# Altium integrated library Maxim Sensors.IntLib: 1171 symbols (part 6 of 61)
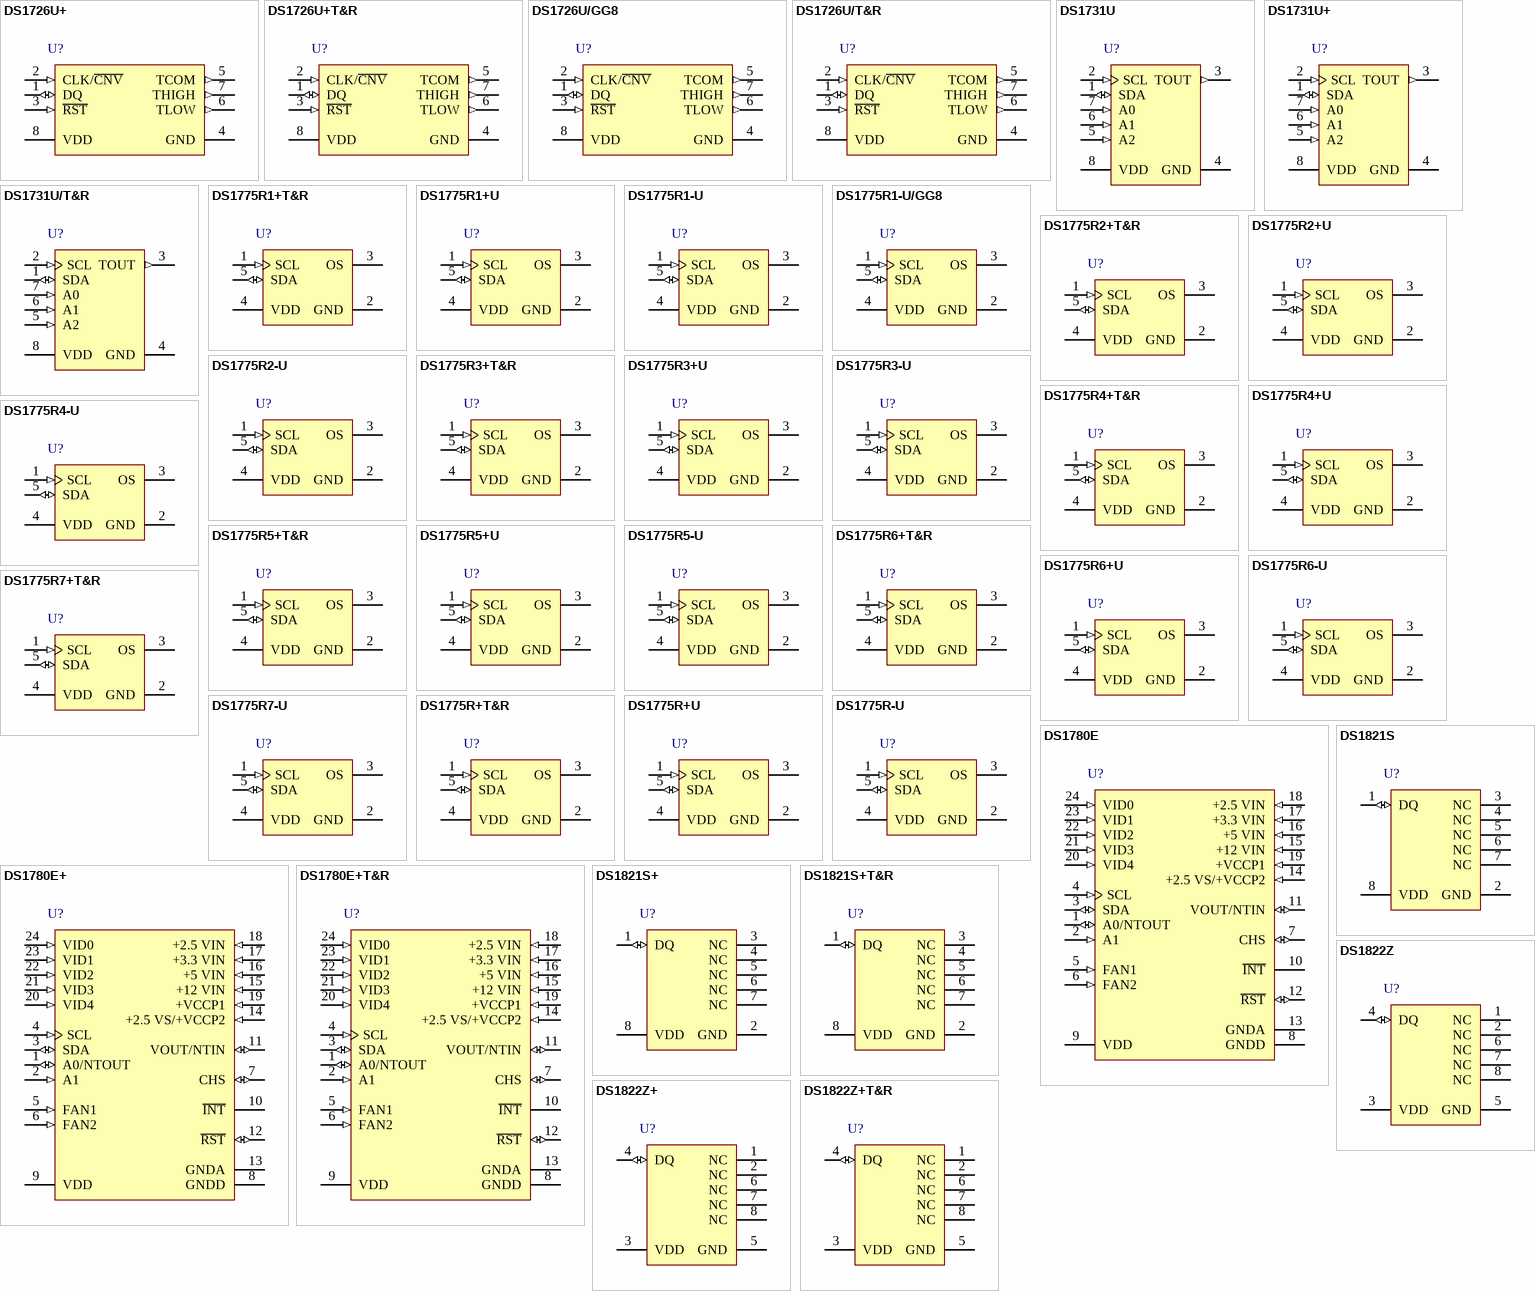
[diagram p38: symbols DS1726U+ to DS1822Z+T&R]

## DS1775R3-U
designator U?
Tiny Digital Thermometer and Thermostat, 9 to 12 Bits Temperature Resolution, -55 to 125 degC, 5-Pin SOT23 (U5-1); Generic Part Number: DS1775; PartNumber: DS1775R3-U; Interface: 2-Wire/I2C/SMBus; Multi Droppable: Yes; Parasite Pwr.: No; DatasheetVersion: Rev. 1; PackageVersion: Rev. G, 04/2011; PackageReference: U5-1; PackageDescription: 5-Pin Small-Outline Transistor Package (U5-1), Body 2.9 x 1.625 mm, Pitch 0.95 mm; Supplier 1: Mouser; Supplier Part Number 1: N/A; Mounting Technology: Surface Mount; Code_JEDEC: MO178; ComponentLink1Description: Manufacturer URL; ComponentLink1URL: http://www.maximintegrated.com/; ComponentLink2Description: Datasheet; ComponentLink2URL: http://datasheets.maximintegrated.com/en/ds/DS1775-DS1775R.pdf; ComponentLink3Description: Package Specification; ComponentLink3URL: http://pdfserv.maximintegrated.com/package_dwgs/21-0057.PDF
footprint MAXM-U5-1_N (SOT23, 5-Leads, Body 2.9x1.625mm, Pitch 0.95mm, IPC Medium Density)
footprint MAXM-U5-1_L (SOT23, 5-Leads, Body 2.9x1.625mm, Pitch 0.95mm, IPC High Density)
footprint MAXM-U5-1_M (SOT23, 5-Leads, Body 2.9x1.625mm, Pitch 0.95mm, IPC Low Density)
pins: 1 SCL (in) "Clock input/output pin for 2-wire serial communication port. This input should be tied to GND for standalone thermostat operation.", 2 GND (power) "Ground pin.", 3 OS (oc) "Thermostat output Open-drain output becomes active when temperature exceeds TOS. Device configuration defines means to clear over-temperature state.", 4 VDD (power) "Supply Voltage 2.7V - 5.5V input power pin.", 5 SDA (io) "Data input/output pin for 2-wire serial communication port. In the standalone thermostat mode, this input selects hysteresis."

## DS1775R4+T&R
designator U?
Tiny Digital Thermometer and Thermostat, 9 to 12 Bits Temperature Resolution, -55 to 125 degC, 5-Pin SOT23 (U5+1), Pb-Free, Tape and Reel; Generic Part Number: DS1775; PartNumber: DS1775R4+T&R; Interface: 2-Wire/I2C/SMBus; Multi Droppable: Yes; Parasite Pwr.: No; DatasheetVersion: Rev. 1; PackageVersion: Rev. G, 04/2011; PackageReference: U5+1; PackageDescription: 5-Pin Small-Outline Transistor Package (U5+1), Body 2.90 x 1.625 mm, Pitch 0.95 mm; Supplier 1: Digi-Key; Supplier Part Number 1: DS1775R4+T&R-ND; Supplier 2: Mouser; Supplier Part Number 2: 700-DS1775R4T&R; Packing: Tape and Reel; Mounting Technology: Surface Mount; Code_JEDEC: MO178; ComponentLink1Description: Manufacturer URL; ComponentLink1URL: http://www.maximintegrated.com/; ComponentLink2Description: Datasheet; ComponentLink2URL: http://datasheets.maximintegrated.com/en/ds/DS1775-DS1775R.pdf; ComponentLink3Description: Package Specification; ComponentLink3URL: http://pdfserv.maximintegrated.com/package_dwgs/21-0057.PDF
footprint MAXM-U5+1_N (SOT23, 5-Leads, Body 2.9x1.625mm, Pitch 0.95mm, IPC Medium Density)
footprint MAXM-U5+1_L (SOT23, 5-Leads, Body 2.9x1.625mm, Pitch 0.95mm, IPC High Density)
footprint MAXM-U5+1_M (SOT23, 5-Leads, Body 2.9x1.625mm, Pitch 0.95mm, IPC Low Density)
pins: 1 SCL (in) "Clock input/output pin for 2-wire serial communication port. This input should be tied to GND for standalone thermostat operation.", 2 GND (power) "Ground pin.", 3 OS (oc) "Thermostat output Open-drain output becomes active when temperature exceeds TOS. Device configuration defines means to clear over-temperature state.", 4 VDD (power) "Supply Voltage 2.7V - 5.5V input power pin.", 5 SDA (io) "Data input/output pin for 2-wire serial communication port. In the standalone thermostat mode, this input selects hysteresis."

## DS1775R4+U
designator U?
Tiny Digital Thermometer and Thermostat, 9 to 12 Bits Temperature Resolution, -55 to 125 degC, 5-Pin SOT23 (U5+1), Pb-Free; Generic Part Number: DS1775; PartNumber: DS1775R4+U; Interface: 2-Wire/I2C/SMBus; Multi Droppable: Yes; Parasite Pwr.: No; DatasheetVersion: Rev. 1; PackageVersion: Rev. G, 04/2011; PackageReference: U5+1; PackageDescription: 5-Pin Small-Outline Transistor Package (U5+1), Body 2.90 x 1.625 mm, Pitch 0.95 mm; Supplier 1: Mouser; Supplier Part Number 1: 700-DS1775R4+U; Mounting Technology: Surface Mount; Code_JEDEC: MO178; ComponentLink1Description: Manufacturer URL; ComponentLink1URL: http://www.maximintegrated.com/; ComponentLink2Description: Datasheet; ComponentLink2URL: http://datasheets.maximintegrated.com/en/ds/DS1775-DS1775R.pdf; ComponentLink3Description: Package Specification; ComponentLink3URL: http://pdfserv.maximintegrated.com/package_dwgs/21-0057.PDF
footprint MAXM-U5+1_N (SOT23, 5-Leads, Body 2.9x1.625mm, Pitch 0.95mm, IPC Medium Density)
footprint MAXM-U5+1_L (SOT23, 5-Leads, Body 2.9x1.625mm, Pitch 0.95mm, IPC High Density)
footprint MAXM-U5+1_M (SOT23, 5-Leads, Body 2.9x1.625mm, Pitch 0.95mm, IPC Low Density)
pins: 1 SCL (in) "Clock input/output pin for 2-wire serial communication port. This input should be tied to GND for standalone thermostat operation.", 2 GND (power) "Ground pin.", 3 OS (oc) "Thermostat output Open-drain output becomes active when temperature exceeds TOS. Device configuration defines means to clear over-temperature state.", 4 VDD (power) "Supply Voltage 2.7V - 5.5V input power pin.", 5 SDA (io) "Data input/output pin for 2-wire serial communication port. In the standalone thermostat mode, this input selects hysteresis."

## DS1775R4-U
designator U?
Tiny Digital Thermometer and Thermostat, 9 to 12 Bits Temperature Resolution, -55 to 125 degC, 5-Pin SOT23 (U5-1); Generic Part Number: DS1775; PartNumber: DS1775R4-U; Interface: 2-Wire/I2C/SMBus; Multi Droppable: Yes; Parasite Pwr.: No; DatasheetVersion: Rev. 1; PackageVersion: Rev. G, 04/2011; PackageReference: U5-1; PackageDescription: 5-Pin Small-Outline Transistor Package (U5-1), Body 2.9 x 1.625 mm, Pitch 0.95 mm; Supplier 1: Mouser; Supplier Part Number 1: N/A; Mounting Technology: Surface Mount; Code_JEDEC: MO178; ComponentLink1Description: Manufacturer URL; ComponentLink1URL: http://www.maximintegrated.com/; ComponentLink2Description: Datasheet; ComponentLink2URL: http://datasheets.maximintegrated.com/en/ds/DS1775-DS1775R.pdf; ComponentLink3Description: Package Specification; ComponentLink3URL: http://pdfserv.maximintegrated.com/package_dwgs/21-0057.PDF
footprint MAXM-U5-1_N (SOT23, 5-Leads, Body 2.9x1.625mm, Pitch 0.95mm, IPC Medium Density)
footprint MAXM-U5-1_L (SOT23, 5-Leads, Body 2.9x1.625mm, Pitch 0.95mm, IPC High Density)
footprint MAXM-U5-1_M (SOT23, 5-Leads, Body 2.9x1.625mm, Pitch 0.95mm, IPC Low Density)
pins: 1 SCL (in) "Clock input/output pin for 2-wire serial communication port. This input should be tied to GND for standalone thermostat operation.", 2 GND (power) "Ground pin.", 3 OS (oc) "Thermostat output Open-drain output becomes active when temperature exceeds TOS. Device configuration defines means to clear over-temperature state.", 4 VDD (power) "Supply Voltage 2.7V - 5.5V input power pin.", 5 SDA (io) "Data input/output pin for 2-wire serial communication port. In the standalone thermostat mode, this input selects hysteresis."

## DS1775R5+T&R
designator U?
Tiny Digital Thermometer and Thermostat, 9 to 12 Bits Temperature Resolution, -55 to 125 degC, 5-Pin SOT23 (U5+1), Pb-Free, Tape and Reel; Generic Part Number: DS1775; PartNumber: DS1775R5+T&R; Interface: 2-Wire/I2C/SMBus; Multi Droppable: Yes; Parasite Pwr.: No; DatasheetVersion: Rev. 1; PackageVersion: Rev. G, 04/2011; PackageReference: U5+1; PackageDescription: 5-Pin Small-Outline Transistor Package (U5+1), Body 2.90 x 1.625 mm, Pitch 0.95 mm; Supplier 1: Digi-Key; Supplier Part Number 1: DS1775R5+T&R-ND; Supplier 2: Mouser; Supplier Part Number 2: 700-DS1775R5T&R; Packing: Tape and Reel; Mounting Technology: Surface Mount; Code_JEDEC: MO178; ComponentLink1Description: Manufacturer URL; ComponentLink1URL: http://www.maximintegrated.com/; ComponentLink2Description: Datasheet; ComponentLink2URL: http://datasheets.maximintegrated.com/en/ds/DS1775-DS1775R.pdf; ComponentLink3Description: Package Specification; ComponentLink3URL: http://pdfserv.maximintegrated.com/package_dwgs/21-0057.PDF
footprint MAXM-U5+1_N (SOT23, 5-Leads, Body 2.9x1.625mm, Pitch 0.95mm, IPC Medium Density)
footprint MAXM-U5+1_L (SOT23, 5-Leads, Body 2.9x1.625mm, Pitch 0.95mm, IPC High Density)
footprint MAXM-U5+1_M (SOT23, 5-Leads, Body 2.9x1.625mm, Pitch 0.95mm, IPC Low Density)
pins: 1 SCL (in) "Clock input/output pin for 2-wire serial communication port. This input should be tied to GND for standalone thermostat operation.", 2 GND (power) "Ground pin.", 3 OS (oc) "Thermostat output Open-drain output becomes active when temperature exceeds TOS. Device configuration defines means to clear over-temperature state.", 4 VDD (power) "Supply Voltage 2.7V - 5.5V input power pin.", 5 SDA (io) "Data input/output pin for 2-wire serial communication port. In the standalone thermostat mode, this input selects hysteresis."

## DS1775R5+U
designator U?
Tiny Digital Thermometer and Thermostat, 9 to 12 Bits Temperature Resolution, -55 to 125 degC, 5-Pin SOT23 (U5+1), Pb-Free; Generic Part Number: DS1775; PartNumber: DS1775R5+U; Interface: 2-Wire/I2C/SMBus; Multi Droppable: Yes; Parasite Pwr.: No; DatasheetVersion: Rev. 1; PackageVersion: Rev. G, 04/2011; PackageReference: U5+1; PackageDescription: 5-Pin Small-Outline Transistor Package (U5+1), Body 2.90 x 1.625 mm, Pitch 0.95 mm; Supplier 1: Mouser; Supplier Part Number 1: N/A; Mounting Technology: Surface Mount; Code_JEDEC: MO178; ComponentLink1Description: Manufacturer URL; ComponentLink1URL: http://www.maximintegrated.com/; ComponentLink2Description: Datasheet; ComponentLink2URL: http://datasheets.maximintegrated.com/en/ds/DS1775-DS1775R.pdf; ComponentLink3Description: Package Specification; ComponentLink3URL: http://pdfserv.maximintegrated.com/package_dwgs/21-0057.PDF
footprint MAXM-U5+1_N (SOT23, 5-Leads, Body 2.9x1.625mm, Pitch 0.95mm, IPC Medium Density)
footprint MAXM-U5+1_L (SOT23, 5-Leads, Body 2.9x1.625mm, Pitch 0.95mm, IPC High Density)
footprint MAXM-U5+1_M (SOT23, 5-Leads, Body 2.9x1.625mm, Pitch 0.95mm, IPC Low Density)
pins: 1 SCL (in) "Clock input/output pin for 2-wire serial communication port. This input should be tied to GND for standalone thermostat operation.", 2 GND (power) "Ground pin.", 3 OS (oc) "Thermostat output Open-drain output becomes active when temperature exceeds TOS. Device configuration defines means to clear over-temperature state.", 4 VDD (power) "Supply Voltage 2.7V - 5.5V input power pin.", 5 SDA (io) "Data input/output pin for 2-wire serial communication port. In the standalone thermostat mode, this input selects hysteresis."

## DS1775R5-U
designator U?
Tiny Digital Thermometer and Thermostat, 9 to 12 Bits Temperature Resolution, -55 to 125 degC, 5-Pin SOT23 (U5-1); Generic Part Number: DS1775; PartNumber: DS1775R5-U; Interface: 2-Wire/I2C/SMBus; Multi Droppable: Yes; Parasite Pwr.: No; DatasheetVersion: Rev. 1; PackageVersion: Rev. G, 04/2011; PackageReference: U5-1; PackageDescription: 5-Pin Small-Outline Transistor Package (U5-1), Body 2.9 x 1.625 mm, Pitch 0.95 mm; Supplier 1: Mouser; Supplier Part Number 1: N/A; Mounting Technology: Surface Mount; Code_JEDEC: MO178; ComponentLink1Description: Manufacturer URL; ComponentLink1URL: http://www.maximintegrated.com/; ComponentLink2Description: Datasheet; ComponentLink2URL: http://datasheets.maximintegrated.com/en/ds/DS1775-DS1775R.pdf; ComponentLink3Description: Package Specification; ComponentLink3URL: http://pdfserv.maximintegrated.com/package_dwgs/21-0057.PDF
footprint MAXM-U5-1_N (SOT23, 5-Leads, Body 2.9x1.625mm, Pitch 0.95mm, IPC Medium Density)
footprint MAXM-U5-1_L (SOT23, 5-Leads, Body 2.9x1.625mm, Pitch 0.95mm, IPC High Density)
footprint MAXM-U5-1_M (SOT23, 5-Leads, Body 2.9x1.625mm, Pitch 0.95mm, IPC Low Density)
pins: 1 SCL (in) "Clock input/output pin for 2-wire serial communication port. This input should be tied to GND for standalone thermostat operation.", 2 GND (power) "Ground pin.", 3 OS (oc) "Thermostat output Open-drain output becomes active when temperature exceeds TOS. Device configuration defines means to clear over-temperature state.", 4 VDD (power) "Supply Voltage 2.7V - 5.5V input power pin.", 5 SDA (io) "Data input/output pin for 2-wire serial communication port. In the standalone thermostat mode, this input selects hysteresis."

## DS1775R6+T&R
designator U?
Tiny Digital Thermometer and Thermostat, 9 to 12 Bits Temperature Resolution, -55 to 125 degC, 5-Pin SOT23 (U5+1), Pb-Free, Tape and Reel; Generic Part Number: DS1775; PartNumber: DS1775R6+T&R; Interface: 2-Wire/I2C/SMBus; Multi Droppable: Yes; Parasite Pwr.: No; DatasheetVersion: Rev. 1; PackageVersion: Rev. G, 04/2011; PackageReference: U5+1; PackageDescription: 5-Pin Small-Outline Transistor Package (U5+1), Body 2.90 x 1.625 mm, Pitch 0.95 mm; Supplier 1: Digi-Key; Supplier Part Number 1: DS1775R6+T&R-ND; Supplier 2: Mouser; Supplier Part Number 2: 700-DS1775R6T&R; Packing: Tape and Reel; Mounting Technology: Surface Mount; Code_JEDEC: MO178; ComponentLink1Description: Manufacturer URL; ComponentLink1URL: http://www.maximintegrated.com/; ComponentLink2Description: Datasheet; ComponentLink2URL: http://datasheets.maximintegrated.com/en/ds/DS1775-DS1775R.pdf; ComponentLink3Description: Package Specification; ComponentLink3URL: http://pdfserv.maximintegrated.com/package_dwgs/21-0057.PDF
footprint MAXM-U5+1_N (SOT23, 5-Leads, Body 2.9x1.625mm, Pitch 0.95mm, IPC Medium Density)
footprint MAXM-U5+1_L (SOT23, 5-Leads, Body 2.9x1.625mm, Pitch 0.95mm, IPC High Density)
footprint MAXM-U5+1_M (SOT23, 5-Leads, Body 2.9x1.625mm, Pitch 0.95mm, IPC Low Density)
pins: 1 SCL (in) "Clock input/output pin for 2-wire serial communication port. This input should be tied to GND for standalone thermostat operation.", 2 GND (power) "Ground pin.", 3 OS (oc) "Thermostat output Open-drain output becomes active when temperature exceeds TOS. Device configuration defines means to clear over-temperature state.", 4 VDD (power) "Supply Voltage 2.7V - 5.5V input power pin.", 5 SDA (io) "Data input/output pin for 2-wire serial communication port. In the standalone thermostat mode, this input selects hysteresis."

## DS1775R6+U
designator U?
Tiny Digital Thermometer and Thermostat, 9 to 12 Bits Temperature Resolution, -55 to 125 degC, 5-Pin SOT23 (U5+1), Pb-Free; Generic Part Number: DS1775; PartNumber: DS1775R6+U; Interface: 2-Wire/I2C/SMBus; Multi Droppable: Yes; Parasite Pwr.: No; DatasheetVersion: Rev. 1; PackageVersion: Rev. G, 04/2011; PackageReference: U5+1; PackageDescription: 5-Pin Small-Outline Transistor Package (U5+1), Body 2.90 x 1.625 mm, Pitch 0.95 mm; Supplier 1: Mouser; Supplier Part Number 1: 700-DS1775R6+U; Mounting Technology: Surface Mount; Code_JEDEC: MO178; ComponentLink1Description: Manufacturer URL; ComponentLink1URL: http://www.maximintegrated.com/; ComponentLink2Description: Datasheet; ComponentLink2URL: http://datasheets.maximintegrated.com/en/ds/DS1775-DS1775R.pdf; ComponentLink3Description: Package Specification; ComponentLink3URL: http://pdfserv.maximintegrated.com/package_dwgs/21-0057.PDF
footprint MAXM-U5+1_N (SOT23, 5-Leads, Body 2.9x1.625mm, Pitch 0.95mm, IPC Medium Density)
footprint MAXM-U5+1_L (SOT23, 5-Leads, Body 2.9x1.625mm, Pitch 0.95mm, IPC High Density)
footprint MAXM-U5+1_M (SOT23, 5-Leads, Body 2.9x1.625mm, Pitch 0.95mm, IPC Low Density)
pins: 1 SCL (in) "Clock input/output pin for 2-wire serial communication port. This input should be tied to GND for standalone thermostat operation.", 2 GND (power) "Ground pin.", 3 OS (oc) "Thermostat output Open-drain output becomes active when temperature exceeds TOS. Device configuration defines means to clear over-temperature state.", 4 VDD (power) "Supply Voltage 2.7V - 5.5V input power pin.", 5 SDA (io) "Data input/output pin for 2-wire serial communication port. In the standalone thermostat mode, this input selects hysteresis."

## DS1775R6-U
designator U?
Tiny Digital Thermometer and Thermostat, 9 to 12 Bits Temperature Resolution, -55 to 125 degC, 5-Pin SOT23 (U5-1); Generic Part Number: DS1775; PartNumber: DS1775R6-U; Interface: 2-Wire/I2C/SMBus; Multi Droppable: Yes; Parasite Pwr.: No; DatasheetVersion: Rev. 1; PackageVersion: Rev. G, 04/2011; PackageReference: U5-1; PackageDescription: 5-Pin Small-Outline Transistor Package (U5-1), Body 2.9 x 1.625 mm, Pitch 0.95 mm; Supplier 1: Mouser; Supplier Part Number 1: N/A; Mounting Technology: Surface Mount; Code_JEDEC: MO178; ComponentLink1Description: Manufacturer URL; ComponentLink1URL: http://www.maximintegrated.com/; ComponentLink2Description: Datasheet; ComponentLink2URL: http://datasheets.maximintegrated.com/en/ds/DS1775-DS1775R.pdf; ComponentLink3Description: Package Specification; ComponentLink3URL: http://pdfserv.maximintegrated.com/package_dwgs/21-0057.PDF
footprint MAXM-U5-1_N (SOT23, 5-Leads, Body 2.9x1.625mm, Pitch 0.95mm, IPC Medium Density)
footprint MAXM-U5-1_L (SOT23, 5-Leads, Body 2.9x1.625mm, Pitch 0.95mm, IPC High Density)
footprint MAXM-U5-1_M (SOT23, 5-Leads, Body 2.9x1.625mm, Pitch 0.95mm, IPC Low Density)
pins: 1 SCL (in) "Clock input/output pin for 2-wire serial communication port. This input should be tied to GND for standalone thermostat operation.", 2 GND (power) "Ground pin.", 3 OS (oc) "Thermostat output Open-drain output becomes active when temperature exceeds TOS. Device configuration defines means to clear over-temperature state.", 4 VDD (power) "Supply Voltage 2.7V - 5.5V input power pin.", 5 SDA (io) "Data input/output pin for 2-wire serial communication port. In the standalone thermostat mode, this input selects hysteresis."

## DS1775R7+T&R
designator U?
Tiny Digital Thermometer and Thermostat, 9 to 12 Bits Temperature Resolution, -55 to 125 degC, 5-Pin SOT23 (U5+1), Pb-Free, Tape and Reel; Generic Part Number: DS1775; PartNumber: DS1775R7+T&R; Interface: 2-Wire/I2C/SMBus; Multi Droppable: Yes; Parasite Pwr.: No; DatasheetVersion: Rev. 1; PackageVersion: Rev. G, 04/2011; PackageReference: U5+1; PackageDescription: 5-Pin Small-Outline Transistor Package (U5+1), Body 2.90 x 1.625 mm, Pitch 0.95 mm; Supplier 1: Digi-Key; Supplier Part Number 1: DS1775R7+T&R-ND; Supplier 2: Mouser; Supplier Part Number 2: 700-DS1775R7T&R; Packing: Tape and Reel; Mounting Technology: Surface Mount; Code_JEDEC: MO178; ComponentLink1Description: Manufacturer URL; ComponentLink1URL: http://www.maximintegrated.com/; ComponentLink2Description: Datasheet; ComponentLink2URL: http://datasheets.maximintegrated.com/en/ds/DS1775-DS1775R.pdf; ComponentLink3Description: Package Specification; ComponentLink3URL: http://pdfserv.maximintegrated.com/package_dwgs/21-0057.PDF
footprint MAXM-U5+1_N (SOT23, 5-Leads, Body 2.9x1.625mm, Pitch 0.95mm, IPC Medium Density)
footprint MAXM-U5+1_L (SOT23, 5-Leads, Body 2.9x1.625mm, Pitch 0.95mm, IPC High Density)
footprint MAXM-U5+1_M (SOT23, 5-Leads, Body 2.9x1.625mm, Pitch 0.95mm, IPC Low Density)
pins: 1 SCL (in) "Clock input/output pin for 2-wire serial communication port. This input should be tied to GND for standalone thermostat operation.", 2 GND (power) "Ground pin.", 3 OS (oc) "Thermostat output Open-drain output becomes active when temperature exceeds TOS. Device configuration defines means to clear over-temperature state.", 4 VDD (power) "Supply Voltage 2.7V - 5.5V input power pin.", 5 SDA (io) "Data input/output pin for 2-wire serial communication port. In the standalone thermostat mode, this input selects hysteresis."

## DS1775R7-U
designator U?
Tiny Digital Thermometer and Thermostat, 9 to 12 Bits Temperature Resolution, -55 to 125 degC, 5-Pin SOT23 (U5-1); Generic Part Number: DS1775; PartNumber: DS1775R7-U; Interface: 2-Wire/I2C/SMBus; Multi Droppable: Yes; Parasite Pwr.: No; DatasheetVersion: Rev. 1; PackageVersion: Rev. G, 04/2011; PackageReference: U5-1; PackageDescription: 5-Pin Small-Outline Transistor Package (U5-1), Body 2.9 x 1.625 mm, Pitch 0.95 mm; Supplier 1: Mouser; Supplier Part Number 1: N/A; Mounting Technology: Surface Mount; Code_JEDEC: MO178; ComponentLink1Description: Manufacturer URL; ComponentLink1URL: http://www.maximintegrated.com/; ComponentLink2Description: Datasheet; ComponentLink2URL: http://datasheets.maximintegrated.com/en/ds/DS1775-DS1775R.pdf; ComponentLink3Description: Package Specification; ComponentLink3URL: http://pdfserv.maximintegrated.com/package_dwgs/21-0057.PDF
footprint MAXM-U5-1_N (SOT23, 5-Leads, Body 2.9x1.625mm, Pitch 0.95mm, IPC Medium Density)
footprint MAXM-U5-1_L (SOT23, 5-Leads, Body 2.9x1.625mm, Pitch 0.95mm, IPC High Density)
footprint MAXM-U5-1_M (SOT23, 5-Leads, Body 2.9x1.625mm, Pitch 0.95mm, IPC Low Density)
pins: 1 SCL (in) "Clock input/output pin for 2-wire serial communication port. This input should be tied to GND for standalone thermostat operation.", 2 GND (power) "Ground pin.", 3 OS (oc) "Thermostat output Open-drain output becomes active when temperature exceeds TOS. Device configuration defines means to clear over-temperature state.", 4 VDD (power) "Supply Voltage 2.7V - 5.5V input power pin.", 5 SDA (io) "Data input/output pin for 2-wire serial communication port. In the standalone thermostat mode, this input selects hysteresis."

## DS1775R+T&R
designator U?
Tiny Digital Thermometer and Thermostat, 9 to 12 Bits Temperature Resolution, -55 to 125 degC, 5-Pin SOT23 (U5+1), Pb-Free, Tape and Reel; Generic Part Number: DS1775; PartNumber: DS1775R+T&R; Interface: 2-Wire/I2C/SMBus; Multi Droppable: Yes; Parasite Pwr.: No; DatasheetVersion: Rev. 1; PackageVersion: Rev. G, 04/2011; PackageReference: U5+1; PackageDescription: 5-Pin Small-Outline Transistor Package (U5+1), Body 2.90 x 1.625 mm, Pitch 0.95 mm; Supplier 1: Digi-Key; Supplier Part Number 1: DS1775R+T&RTR-ND; Supplier 2: Digi-Key; Supplier Part Number 2: DS1775R+T&RCT-ND; Supplier 3: Digi-Key; Supplier Part Number 3: DS1775R+T&RDKR-ND; Supplier 4: Farnell; Supplier Part Number 4: 2085116; Supplier 5: Newark; Supplier Part Number 5: 59J2577; Supplier 6: Newark; Supplier Part Number 6: 89T8693; Supplier 7: Mouser; Supplier Part Number 7: 700-DS1775RT&R; Packing: Tape and Reel; Mounting Technology: Surface Mount; Code_JEDEC: MO178; ComponentLink1Description: Manufacturer URL; ComponentLink1URL: http://www.maximintegrated.com/; ComponentLink2Description: Datasheet; ComponentLink2URL: http://datasheets.maximintegrated.com/en/ds/DS1775-DS1775R.pdf; ComponentLink3Description: Package Specification; ComponentLink3URL: http://pdfserv.maximintegrated.com/package_dwgs/21-0057.PDF
footprint MAXM-U5+1_N (SOT23, 5-Leads, Body 2.9x1.625mm, Pitch 0.95mm, IPC Medium Density)
footprint MAXM-U5+1_L (SOT23, 5-Leads, Body 2.9x1.625mm, Pitch 0.95mm, IPC High Density)
footprint MAXM-U5+1_M (SOT23, 5-Leads, Body 2.9x1.625mm, Pitch 0.95mm, IPC Low Density)
pins: 1 SCL (in) "Clock input/output pin for 2-wire serial communication port. This input should be tied to GND for standalone thermostat operation.", 2 GND (power) "Ground pin.", 3 OS (oc) "Thermostat output Open-drain output becomes active when temperature exceeds TOS. Device configuration defines means to clear over-temperature state.", 4 VDD (power) "Supply Voltage 2.7V - 5.5V input power pin.", 5 SDA (io) "Data input/output pin for 2-wire serial communication port. In the standalone thermostat mode, this input selects hysteresis."

## DS1775R+U
designator U?
Tiny Digital Thermometer and Thermostat, 9 to 12 Bits Temperature Resolution, -55 to 125 degC, 5-Pin SOT23 (U5+1), Pb-Free; Generic Part Number: DS1775; PartNumber: DS1775R+U; Interface: 2-Wire/I2C/SMBus; Multi Droppable: Yes; Parasite Pwr.: No; DatasheetVersion: Rev. 1; PackageVersion: Rev. G, 04/2011; PackageReference: U5+1; PackageDescription: 5-Pin Small-Outline Transistor Package (U5+1), Body 2.90 x 1.625 mm, Pitch 0.95 mm; Supplier 1: Mouser; Supplier Part Number 1: N/A; Mounting Technology: Surface Mount; Code_JEDEC: MO178; ComponentLink1Description: Manufacturer URL; ComponentLink1URL: http://www.maximintegrated.com/; ComponentLink2Description: Datasheet; ComponentLink2URL: http://datasheets.maximintegrated.com/en/ds/DS1775-DS1775R.pdf; ComponentLink3Description: Package Specification; ComponentLink3URL: http://pdfserv.maximintegrated.com/package_dwgs/21-0057.PDF
footprint MAXM-U5+1_N (SOT23, 5-Leads, Body 2.9x1.625mm, Pitch 0.95mm, IPC Medium Density)
footprint MAXM-U5+1_L (SOT23, 5-Leads, Body 2.9x1.625mm, Pitch 0.95mm, IPC High Density)
footprint MAXM-U5+1_M (SOT23, 5-Leads, Body 2.9x1.625mm, Pitch 0.95mm, IPC Low Density)
pins: 1 SCL (in) "Clock input/output pin for 2-wire serial communication port. This input should be tied to GND for standalone thermostat operation.", 2 GND (power) "Ground pin.", 3 OS (oc) "Thermostat output Open-drain output becomes active when temperature exceeds TOS. Device configuration defines means to clear over-temperature state.", 4 VDD (power) "Supply Voltage 2.7V - 5.5V input power pin.", 5 SDA (io) "Data input/output pin for 2-wire serial communication port. In the standalone thermostat mode, this input selects hysteresis."

## DS1775R-U
designator U?
Tiny Digital Thermometer and Thermostat, 9 to 12 Bits Temperature Resolution, -55 to 125 degC, 5-Pin SOT23 (U5-1); Generic Part Number: DS1775; PartNumber: DS1775R-U; Interface: 2-Wire/I2C/SMBus; Multi Droppable: Yes; Parasite Pwr.: No; DatasheetVersion: Rev. 1; PackageVersion: Rev. G, 04/2011; PackageReference: U5-1; PackageDescription: 5-Pin Small-Outline Transistor Package (U5-1), Body 2.9 x 1.625 mm, Pitch 0.95 mm; Supplier 1: Mouser; Supplier Part Number 1: N/A; Mounting Technology: Surface Mount; Code_JEDEC: MO178; ComponentLink1Description: Manufacturer URL; ComponentLink1URL: http://www.maximintegrated.com/; ComponentLink2Description: Datasheet; ComponentLink2URL: http://datasheets.maximintegrated.com/en/ds/DS1775-DS1775R.pdf; ComponentLink3Description: Package Specification; ComponentLink3URL: http://pdfserv.maximintegrated.com/package_dwgs/21-0057.PDF
footprint MAXM-U5-1_N (SOT23, 5-Leads, Body 2.9x1.625mm, Pitch 0.95mm, IPC Medium Density)
footprint MAXM-U5-1_L (SOT23, 5-Leads, Body 2.9x1.625mm, Pitch 0.95mm, IPC High Density)
footprint MAXM-U5-1_M (SOT23, 5-Leads, Body 2.9x1.625mm, Pitch 0.95mm, IPC Low Density)
pins: 1 SCL (in) "Clock input/output pin for 2-wire serial communication port. This input should be tied to GND for standalone thermostat operation.", 2 GND (power) "Ground pin.", 3 OS (oc) "Thermostat output Open-drain output becomes active when temperature exceeds TOS. Device configuration defines means to clear over-temperature state.", 4 VDD (power) "Supply Voltage 2.7V - 5.5V input power pin.", 5 SDA (io) "Data input/output pin for 2-wire serial communication port. In the standalone thermostat mode, this input selects hysteresis."

## DS1780E
designator U?
CPU Peripheral Monitor, 9 Bits Temperature Resolution, -40 to 125 degC, 24-Pin SOP (U24-2); Generic Part Number: DS1780; PartNumber: DS1780E; Functions: Fan Controller, Voltage Monitor; Interface: 2-Wire/I2C/SMBus; Multi Droppable: Yes; Parasite Pwr.: No; DatasheetVersion: Rev. 1; PackageVersion: Rev. L, 07/2010; PackageReference: U24-2; PackageDescription: 24-Pin Thin Shrink Small-Outline Package, Body 4.4 x 7.8 mm, Pitch 0.65 mm; Supplier 1: Digi-Key; Supplier Part Number 1: DS1780E-ND; Supplier 2: Mouser; Supplier Part Number 2: N/A; Mounting Technology: Surface Mount; Code_JEDEC: MO-153; ComponentLink1Description: Manufacturer URL; ComponentLink1URL: http://www.maximintegrated.com/; ComponentLink2Description: Datasheet; ComponentLink2URL: http://datasheets.maximintegrated.com/en/ds/DS1780.pdf; ComponentLink3Description: Package Specification; ComponentLink3URL: http://pdfserv.maximintegrated.com/package_dwgs/21-0066.PDF
footprint MAXM-U24-2_N (SOP, 24-Leads, Body 7.8x4.4mm, Pitch 0.65mm, IPC Medium Density)
footprint MAXM-U24-2_L (SOP, 24-Leads, Body 7.8x4.4mm, Pitch 0.65mm, IPC High Density)
footprint MAXM-U24-2_M (SOP, 24-Leads, Body 7.8x4.4mm, Pitch 0.65mm, IPC Low Density)
pins: 1 A0/NTOUT (io) "The lowest order programmable bit of the 2-wire bus address. This pin functions as an output when doing a NAND TREE test.", 2 A1 (in) "The highest order programmable bit of the 2-wire bus address.", 3 SDA (io) "2-wire bus bi-directional data. Open-drain output.", 4 SCL (in) "2-wire bus synchronous clock.", 5 FAN1 (in) "0 to VDD amplitude fan tachometer input.", 6 FAN2 (in) "0 to VDD amplitude fan tachometer input.", 7 CHS (io) "An active high input from an external circuit, which latches a Chassis Intrusion event. This line can go high without any clamping action regardless of the powered state of the DS1780. The DS1780 provides an internal open (See Datasheet)", 8 GNDD (power) "Internally connected to all digital circuitry.", 9 VDD (power) "+3.3V or +5V VDD power. Bypass with the parallel combination of 10 uF (Electrolytic or Tantalum) and 0.1 uF (ceramic) bypass capacitors.", 10 ~{INT} (oc) "Active-low Programmable interrupt output. The output is enabled when Bit 1 of the Configuration Register is set to 1. The default state is disabled.", 11 VOUT/NTIN (io) "An active-high input that enables NAND Tree board-level connectivity testing. Refer to "NAND Tree Testing" Section. Used as DAC output when NAND Tree is not selected.", 12 ~{RST} (io) "Master Reset, 5 mA open drain driver, active low output with at least a 20 ms minimum pulse width. Available when enabled via Bit 4 in Configuration Register. This is a bi-directional I/O pin. It acts as power on RESET input.", 13 GNDA (power) "Internally connected to all analog circuitry. The ground reference for all analog inputs.", 14 +2.5 VS/+VCCP2 (in) "Analog input for monitoring -12V or +VCCP2. DS1780 will measure voltages on this pin from 0V to 3.6V. An external resistor ladder is required for monitoring a -12V supply (see Figure 1).", 15 +12 VIN (in) "A/D inputs for 5 positive voltages.", 16 +5 VIN (in) "A/D inputs for 5 positive voltages.", 17 +3.3 VIN (in) "A/D inputs for 5 positive voltages.", 18 +2.5 VIN (in) "A/D inputs for 5 positive voltages.", 19 +VCCP1 (in) "A/D inputs for 5 positive voltages.", 20 VID4 (in) "Voltage supply readouts from the processor. These values are read in the VID and VID4 Status Registers.", 21 VID3 (in) "Voltage supply readouts from the processor. These values are read in the VID and VID4 Status Registers.", 22 VID2 (in) "Voltage supply readouts from the processor. These values are read in the VID and VID4 Status Registers.", 23 VID1 (in) "Voltage supply readouts from the processor. These values are read in the VID and VID4 Status Registers.", 24 VID0 (in) "Voltage supply readouts from the processor. These values are read in the VID and VID4 Status Registers."

## DS1780E+
designator U?
CPU Peripheral Monitor, 9 Bits Temperature Resolution, -40 to 125 degC, 24-Pin SOP (U24+1), Pb-Free; Generic Part Number: DS1780; PartNumber: DS1780E+; Functions: Fan Controller, Voltage Monitor; Interface: 2-Wire/I2C/SMBus; Multi Droppable: Yes; Parasite Pwr.: No; DatasheetVersion: Rev. 1; PackageVersion: Rev. L, 07/2010; PackageReference: U24+1; PackageDescription: 24-Pin Thin Shrink Small-Outline Package (U24+1), Body 7.8 x 4.4 mm, Pitch 0.65 mm; Supplier 1: Digi-Key; Supplier Part Number 1: DS1780E+-ND; Supplier 2: Newark; Supplier Part Number 2: 73J0100; Supplier 3: Mouser; Supplier Part Number 3: 700-DS1780E; Mounting Technology: Surface Mount; Code_JEDEC: MO-153; ComponentLink1Description: Manufacturer URL; ComponentLink1URL: http://www.maximintegrated.com/; ComponentLink2Description: Datasheet; ComponentLink2URL: http://datasheets.maximintegrated.com/en/ds/DS1780.pdf; ComponentLink3Description: Package Specification; ComponentLink3URL: http://pdfserv.maximintegrated.com/package_dwgs/21-0066.PDF
footprint MAXM-U24+1_N (SOP, 24-Leads, Body 7.8x4.4mm, Pitch 0.65mm, IPC Medium Density)
footprint MAXM-U24+1_L (SOP, 24-Leads, Body 7.8x4.4mm, Pitch 0.65mm, IPC High Density)
footprint MAXM-U24+1_M (SOP, 24-Leads, Body 7.8x4.4mm, Pitch 0.65mm, IPC Low Density)
pins: 1 A0/NTOUT (io) "The lowest order programmable bit of the 2-wire bus address. This pin functions as an output when doing a NAND TREE test.", 2 A1 (in) "The highest order programmable bit of the 2-wire bus address.", 3 SDA (io) "2-wire bus bi-directional data. Open-drain output.", 4 SCL (in) "2-wire bus synchronous clock.", 5 FAN1 (in) "0 to VDD amplitude fan tachometer input.", 6 FAN2 (in) "0 to VDD amplitude fan tachometer input.", 7 CHS (io) "An active high input from an external circuit, which latches a Chassis Intrusion event. This line can go high without any clamping action regardless of the powered state of the DS1780. The DS1780 provides an internal open (See Datasheet)", 8 GNDD (power) "Internally connected to all digital circuitry.", 9 VDD (power) "+3.3V or +5V VDD power. Bypass with the parallel combination of 10 uF (Electrolytic or Tantalum) and 0.1 uF (ceramic) bypass capacitors.", 10 ~{INT} (oc) "Active-low Programmable interrupt output. The output is enabled when Bit 1 of the Configuration Register is set to 1. The default state is disabled.", 11 VOUT/NTIN (io) "An active-high input that enables NAND Tree board-level connectivity testing. Refer to "NAND Tree Testing" Section. Used as DAC output when NAND Tree is not selected.", 12 ~{RST} (io) "Master Reset, 5 mA open drain driver, active low output with at least a 20 ms minimum pulse width. Available when enabled via Bit 4 in Configuration Register. This is a bi-directional I/O pin. It acts as power on RESET input.", 13 GNDA (power) "Internally connected to all analog circuitry. The ground reference for all analog inputs.", 14 +2.5 VS/+VCCP2 (in) "Analog input for monitoring -12V or +VCCP2. DS1780 will measure voltages on this pin from 0V to 3.6V. An external resistor ladder is required for monitoring a -12V supply (see Figure 1).", 15 +12 VIN (in) "A/D inputs for 5 positive voltages.", 16 +5 VIN (in) "A/D inputs for 5 positive voltages.", 17 +3.3 VIN (in) "A/D inputs for 5 positive voltages.", 18 +2.5 VIN (in) "A/D inputs for 5 positive voltages.", 19 +VCCP1 (in) "A/D inputs for 5 positive voltages.", 20 VID4 (in) "Voltage supply readouts from the processor. These values are read in the VID and VID4 Status Registers.", 21 VID3 (in) "Voltage supply readouts from the processor. These values are read in the VID and VID4 Status Registers.", 22 VID2 (in) "Voltage supply readouts from the processor. These values are read in the VID and VID4 Status Registers.", 23 VID1 (in) "Voltage supply readouts from the processor. These values are read in the VID and VID4 Status Registers.", 24 VID0 (in) "Voltage supply readouts from the processor. These values are read in the VID and VID4 Status Registers."

## DS1780E+T&R
designator U?
CPU Peripheral Monitor, 9 Bits Temperature Resolution, -40 to 125 degC, 24-Pin SOP (U24+1), Pb-Free, Tape and Reel; Generic Part Number: DS1780; PartNumber: DS1780E+T&R; Functions: Fan Controller, Voltage Monitor; Interface: 2-Wire/I2C/SMBus; Multi Droppable: Yes; Parasite Pwr.: No; DatasheetVersion: Rev. 1; PackageVersion: Rev. L, 07/2010; PackageReference: U24+1; PackageDescription: 24-Pin Thin Shrink Small-Outline Package (U24+1), Body 7.8 x 4.4 mm, Pitch 0.65 mm; Supplier 1: Digi-Key; Supplier Part Number 1: DS1780E+T&R-ND; Supplier 2: Mouser; Supplier Part Number 2: 700-DS1780ET&R; Packing: Tape and Reel; Mounting Technology: Surface Mount; Code_JEDEC: MO-153; ComponentLink1Description: Manufacturer URL; ComponentLink1URL: http://www.maximintegrated.com/; ComponentLink2Description: Datasheet; ComponentLink2URL: http://datasheets.maximintegrated.com/en/ds/DS1780.pdf; ComponentLink3Description: Package Specification; ComponentLink3URL: http://pdfserv.maximintegrated.com/package_dwgs/21-0066.PDF
footprint MAXM-U24+1_N (SOP, 24-Leads, Body 7.8x4.4mm, Pitch 0.65mm, IPC Medium Density)
footprint MAXM-U24+1_L (SOP, 24-Leads, Body 7.8x4.4mm, Pitch 0.65mm, IPC High Density)
footprint MAXM-U24+1_M (SOP, 24-Leads, Body 7.8x4.4mm, Pitch 0.65mm, IPC Low Density)
pins: 1 A0/NTOUT (io) "The lowest order programmable bit of the 2-wire bus address. This pin functions as an output when doing a NAND TREE test.", 2 A1 (in) "The highest order programmable bit of the 2-wire bus address.", 3 SDA (io) "2-wire bus bi-directional data. Open-drain output.", 4 SCL (in) "2-wire bus synchronous clock.", 5 FAN1 (in) "0 to VDD amplitude fan tachometer input.", 6 FAN2 (in) "0 to VDD amplitude fan tachometer input.", 7 CHS (io) "An active high input from an external circuit, which latches a Chassis Intrusion event. This line can go high without any clamping action regardless of the powered state of the DS1780. The DS1780 provides an internal open (See Datasheet)", 8 GNDD (power) "Internally connected to all digital circuitry.", 9 VDD (power) "+3.3V or +5V VDD power. Bypass with the parallel combination of 10 uF (Electrolytic or Tantalum) and 0.1 uF (ceramic) bypass capacitors.", 10 ~{INT} (oc) "Active-low Programmable interrupt output. The output is enabled when Bit 1 of the Configuration Register is set to 1. The default state is disabled.", 11 VOUT/NTIN (io) "An active-high input that enables NAND Tree board-level connectivity testing. Refer to "NAND Tree Testing" Section. Used as DAC output when NAND Tree is not selected.", 12 ~{RST} (io) "Master Reset, 5 mA open drain driver, active low output with at least a 20 ms minimum pulse width. Available when enabled via Bit 4 in Configuration Register. This is a bi-directional I/O pin. It acts as power on RESET input.", 13 GNDA (power) "Internally connected to all analog circuitry. The ground reference for all analog inputs.", 14 +2.5 VS/+VCCP2 (in) "Analog input for monitoring -12V or +VCCP2. DS1780 will measure voltages on this pin from 0V to 3.6V. An external resistor ladder is required for monitoring a -12V supply (see Figure 1).", 15 +12 VIN (in) "A/D inputs for 5 positive voltages.", 16 +5 VIN (in) "A/D inputs for 5 positive voltages.", 17 +3.3 VIN (in) "A/D inputs for 5 positive voltages.", 18 +2.5 VIN (in) "A/D inputs for 5 positive voltages.", 19 +VCCP1 (in) "A/D inputs for 5 positive voltages.", 20 VID4 (in) "Voltage supply readouts from the processor. These values are read in the VID and VID4 Status Registers.", 21 VID3 (in) "Voltage supply readouts from the processor. These values are read in the VID and VID4 Status Registers.", 22 VID2 (in) "Voltage supply readouts from the processor. These values are read in the VID and VID4 Status Registers.", 23 VID1 (in) "Voltage supply readouts from the processor. These values are read in the VID and VID4 Status Registers.", 24 VID0 (in) "Voltage supply readouts from the processor. These values are read in the VID and VID4 Status Registers."

## DS1821S
designator U?
Digital Thermometer or Standalone Thermostat, -55 to 125 degC, 8-Pin SOIC (W8-2); Generic Part Number: DS1821; PartNumber: DS1821S; Functions: Standalone Thermostat, Temperature Switch/Temperature Comparator; Interface: 1-Wire Non-Network, Logic; Switch Type: Local; DatasheetVersion: Rev. 4; PackageVersion: Rev. B, 01/2010; PackageReference: W8-2; PackageDescription: 8-Pin Small-Outline IC, Body 5.285 x 5.31 mm, Pitch 1.27 mm; Supplier 1: Digi-Key; Supplier Part Number 1: DS1821S-ND; Supplier 2: Mouser; Supplier Part Number 2: N/A; Mounting Technology: Surface Mount; ComponentLink1Description: Manufacturer URL; ComponentLink1URL: http://www.maximintegrated.com/; ComponentLink2Description: Datasheet; ComponentLink2URL: http://datasheets.maximintegrated.com/en/ds/DS1821; ComponentLink3Description: Package Specification; ComponentLink3URL: http://pdfserv.maximintegrated.com/package_dwgs/21-0262.PDF
footprint MAXM-W8-2_N (SOIC, 8-Leads, Body 5.31x5.285mm, Pitch 1.27mm, IPC Medium Density)
footprint MAXM-W8-2_L (SOIC, 8-Leads, Body 5.31x5.285mm, Pitch 1.27mm, IPC High Density)
footprint MAXM-W8-2_M (SOIC, 8-Leads, Body 5.31x5.285mm, Pitch 1.27mm, IPC Low Density)
pins: 1 DQ (io) "Open drain data input/output pin - 1-Wire operation; Open drain thermostat output pin -thermostat operation.", 2 GND (power) "Ground pin.", 3 NC "No Connect", 4 NC "No Connect", 5 NC "No Connect", 6 NC "No Connect", 7 NC "No Connect", 8 VDD (power) "Power supply pin."

## DS1821S+
designator U?
Digital Thermometer or Standalone Thermostat, -55 to 125 degC, 8-Pin SOIC (W8+4), Pb-Free; Generic Part Number: DS1821; PartNumber: DS1821S+; Functions: Standalone Thermostat, Temperature Switch/Temperature Comparator; Interface: 1-Wire Non-Network, Logic; Switch Type: Local; DatasheetVersion: Rev. 4; PackageVersion: Rev. B, 01/2010; PackageReference: W8+4; PackageDescription: 8-Pin Small-Outline IC, Body 5.285 x 5.31 mm, Pitch 1.27 mm; Supplier 1: Digi-Key; Supplier Part Number 1: DS1821S+-ND; Supplier 2: Mouser; Supplier Part Number 2: 700-DS1821S; RoHS: Pb-Free; Mounting Technology: Surface Mount; ComponentLink1Description: Manufacturer URL; ComponentLink1URL: http://www.maximintegrated.com/; ComponentLink2Description: Datasheet; ComponentLink2URL: http://datasheets.maximintegrated.com/en/ds/DS1821; ComponentLink3Description: Package Specification; ComponentLink3URL: http://pdfserv.maximintegrated.com/package_dwgs/21-0262.PDF
footprint MAXM-W8+4_N (SOIC, 8-Leads, Body 5.31x5.285mm, Pitch 1.27mm, IPC Medium Density)
footprint MAXM-W8+4_L (SOIC, 8-Leads, Body 5.31x5.285mm, Pitch 1.27mm, IPC High Density)
footprint MAXM-W8+4_M (SOIC, 8-Leads, Body 5.31x5.285mm, Pitch 1.27mm, IPC Low Density)
pins: 1 DQ (io) "Open drain data input/output pin - 1-Wire operation; Open drain thermostat output pin -thermostat operation.", 2 GND (power) "Ground pin.", 3 NC "No Connect", 4 NC "No Connect", 5 NC "No Connect", 6 NC "No Connect", 7 NC "No Connect", 8 VDD (power) "Power supply pin."

## DS1821S+T&R
designator U?
Digital Thermometer or Standalone Thermostat, -55 to 125 degC, 8-Pin SOIC (W8+4), Pb-Free, Tape and Reel; Generic Part Number: DS1821; PartNumber: DS1821S+T&R; Functions: Standalone Thermostat, Temperature Switch/Temperature Comparator; Interface: 1-Wire Non-Network, Logic; Switch Type: Local; DatasheetVersion: Rev. 4; PackageVersion: Rev. B, 01/2010; PackageReference: W8+4; PackageDescription: 8-Pin Small-Outline IC, Body 5.285 x 5.31 mm, Pitch 1.27 mm; Supplier 1: Digi-Key; Supplier Part Number 1: DS1821S+T&R-ND; Supplier 2: Mouser; Supplier Part Number 2: 700-DS1821ST&R; Packing: Tape and Reel; RoHS: Pb-Free; Mounting Technology: Surface Mount; ComponentLink1Description: Manufacturer URL; ComponentLink1URL: http://www.maximintegrated.com/; ComponentLink2Description: Datasheet; ComponentLink2URL: http://datasheets.maximintegrated.com/en/ds/DS1821; ComponentLink3Description: Package Specification; ComponentLink3URL: http://pdfserv.maximintegrated.com/package_dwgs/21-0262.PDF
footprint MAXM-W8+4_N (SOIC, 8-Leads, Body 5.31x5.285mm, Pitch 1.27mm, IPC Medium Density)
footprint MAXM-W8+4_L (SOIC, 8-Leads, Body 5.31x5.285mm, Pitch 1.27mm, IPC High Density)
footprint MAXM-W8+4_M (SOIC, 8-Leads, Body 5.31x5.285mm, Pitch 1.27mm, IPC Low Density)
pins: 1 DQ (io) "Open drain data input/output pin - 1-Wire operation; Open drain thermostat output pin -thermostat operation.", 2 GND (power) "Ground pin.", 3 NC "No Connect", 4 NC "No Connect", 5 NC "No Connect", 6 NC "No Connect", 7 NC "No Connect", 8 VDD (power) "Power supply pin."

## DS1822Z
designator U?
Econo 1-Wire Digital Thermometer, -55 to 125 degC, 8-Pin SOIC (S8-2); Generic Part Number: DS1822; PartNumber: DS1822Z; Multi Droppable: Yes; Sensor Type: Local; Temp. Thresh.: Programmable (NV); DatasheetVersion: Rev. 2; PackageVersion: Rev. D, 10/2012; PackageReference: S8-2; PackageDescription: 8-Pin Small-Outline IC, Narrow (0.15in) (S8-2), Body 4.90 x 3.90 mm, Pitch 1.27 mm; Supplier 1: Digi-Key; Supplier Part Number 1: DS1822Z-ND; Supplier 2: Mouser; Supplier Part Number 2: N/A; Interface: 1-Wire; Parasite Pwr.: Yes; Mounting Technology: Surface Mount; Code_JEDEC: MS012; ComponentLink1Description: Manufacturer URL; ComponentLink1URL: http://www.maximintegrated.com/; ComponentLink2Description: Datasheet; ComponentLink2URL: http://datasheets.maximintegrated.com/en/ds/DS1822.pdf; ComponentLink3Description: Package Specification; ComponentLink3URL: http://pdfserv.maximintegrated.com/package_dwgs/21-0041.PDF
footprint MAXM-S8-2_N (SOIC, 8-Leads, Body 4.90x3.90mm, Pitch 1.27mm, IPC Medium Density)
footprint MAXM-S8-2_L (SOIC, 8-Leads, Body 4.90x3.90mm, Pitch 1.27mm, IPC High Density)
footprint MAXM-S8-2_M (SOIC, 8-Leads, Body 4.90x3.90mm, Pitch 1.27mm, IPC Low Density)
pins: 1 NC "No Connect", 2 NC "No Connect", 3 VDD (power) "Optional VDD pin. VDD must be grounded for operation in parasite power mode.", 4 DQ (io) "Data Input/Output pin. Open-drain 1-Wire interface pin. Also provides power to the device when used in parasite power mode (see "Parasite Power" section).", 5 GND (power) "Ground.", 6 NC "No Connect", 7 NC "No Connect", 8 NC "No Connect"

## DS1822Z+
designator U?
Econo 1-Wire Digital Thermometer, -55 to 125 degC, 8-Pin SOIC (S8+2), Pb-Free; Generic Part Number: DS1822; PartNumber: DS1822Z+; Multi Droppable: Yes; Sensor Type: Local; Temp. Thresh.: Programmable (NV); DatasheetVersion: Rev. 2; PackageVersion: Rev. D, 10/2012; PackageReference: S8+2; PackageDescription: 8-Pin Small-Outline IC, Narrow (0.15in) (S8+2), Body 4.90 x 3.90 mm, Pitch 1.27 mm; Supplier 1: Digi-Key; Supplier Part Number 1: DS1822Z+-ND; Supplier 2: Farnell; Supplier Part Number 2: 2085114; Supplier 3: Newark; Supplier Part Number 3: 89T8695; Supplier 4: Newark; Supplier Part Number 4: 57K0886; Supplier 5: Mouser; Supplier Part Number 5: 700-DS1822Z; Interface: 1-Wire; Parasite Pwr.: Yes; RoHS: Pb-Free; Mounting Technology: Surface Mount; Code_JEDEC: MS012; ComponentLink1Description: Manufacturer URL; ComponentLink1URL: http://www.maximintegrated.com/; ComponentLink2Description: Datasheet; ComponentLink2URL: http://datasheets.maximintegrated.com/en/ds/DS1822.pdf; ComponentLink3Description: Package Specification; ComponentLink3URL: http://pdfserv.maximintegrated.com/package_dwgs/21-0041.PDF
footprint MAXM-S8+2_N (SOIC, 8-Leads, Body 4.90x3.90mm, Pitch 1.27mm, IPC Medium Density)
footprint MAXM-S8+2_L (SOIC, 8-Leads, Body 4.90x3.90mm, Pitch 1.27mm, IPC High Density)
footprint MAXM-S8+2_M (SOIC, 8-Leads, Body 4.90x3.90mm, Pitch 1.27mm, IPC Low Density)
pins: 1 NC "No Connect", 2 NC "No Connect", 3 VDD (power) "Optional VDD pin. VDD must be grounded for operation in parasite power mode.", 4 DQ (io) "Data Input/Output pin. Open-drain 1-Wire interface pin. Also provides power to the device when used in parasite power mode (see "Parasite Power" section).", 5 GND (power) "Ground.", 6 NC "No Connect", 7 NC "No Connect", 8 NC "No Connect"

## DS1822Z+T&R
designator U?
Econo 1-Wire Digital Thermometer, -55 to 125 degC, 8-Pin SOIC (S8+2), Pb-Free, Tape and Reel; Generic Part Number: DS1822; PartNumber: DS1822Z+T&R; Multi Droppable: Yes; Sensor Type: Local; Temp. Thresh.: Programmable (NV); DatasheetVersion: Rev. 2; PackageVersion: Rev. D, 10/2012; PackageReference: S8+2; PackageDescription: 8-Pin Small-Outline IC, Narrow (0.15in) (S8+2), Body 4.90 x 3.90 mm, Pitch 1.27 mm; Supplier 1: Digi-Key; Supplier Part Number 1: DS1822Z+T&R-ND; Supplier 2: Mouser; Supplier Part Number 2: 700-DS1822ZT&R; Interface: 1-Wire; Packing: Tape and Reel; Parasite Pwr.: Yes; RoHS: Pb-Free; Mounting Technology: Surface Mount; Code_JEDEC: MS012; ComponentLink1Description: Manufacturer URL; ComponentLink1URL: http://www.maximintegrated.com/; ComponentLink2Description: Datasheet; ComponentLink2URL: http://datasheets.maximintegrated.com/en/ds/DS1822.pdf; ComponentLink3Description: Package Specification; ComponentLink3URL: http://pdfserv.maximintegrated.com/package_dwgs/21-0041.PDF
footprint MAXM-S8+2_N (SOIC, 8-Leads, Body 4.90x3.90mm, Pitch 1.27mm, IPC Medium Density)
footprint MAXM-S8+2_L (SOIC, 8-Leads, Body 4.90x3.90mm, Pitch 1.27mm, IPC High Density)
footprint MAXM-S8+2_M (SOIC, 8-Leads, Body 4.90x3.90mm, Pitch 1.27mm, IPC Low Density)
pins: 1 NC "No Connect", 2 NC "No Connect", 3 VDD (power) "Optional VDD pin. VDD must be grounded for operation in parasite power mode.", 4 DQ (io) "Data Input/Output pin. Open-drain 1-Wire interface pin. Also provides power to the device when used in parasite power mode (see "Parasite Power" section).", 5 GND (power) "Ground.", 6 NC "No Connect", 7 NC "No Connect", 8 NC "No Connect"

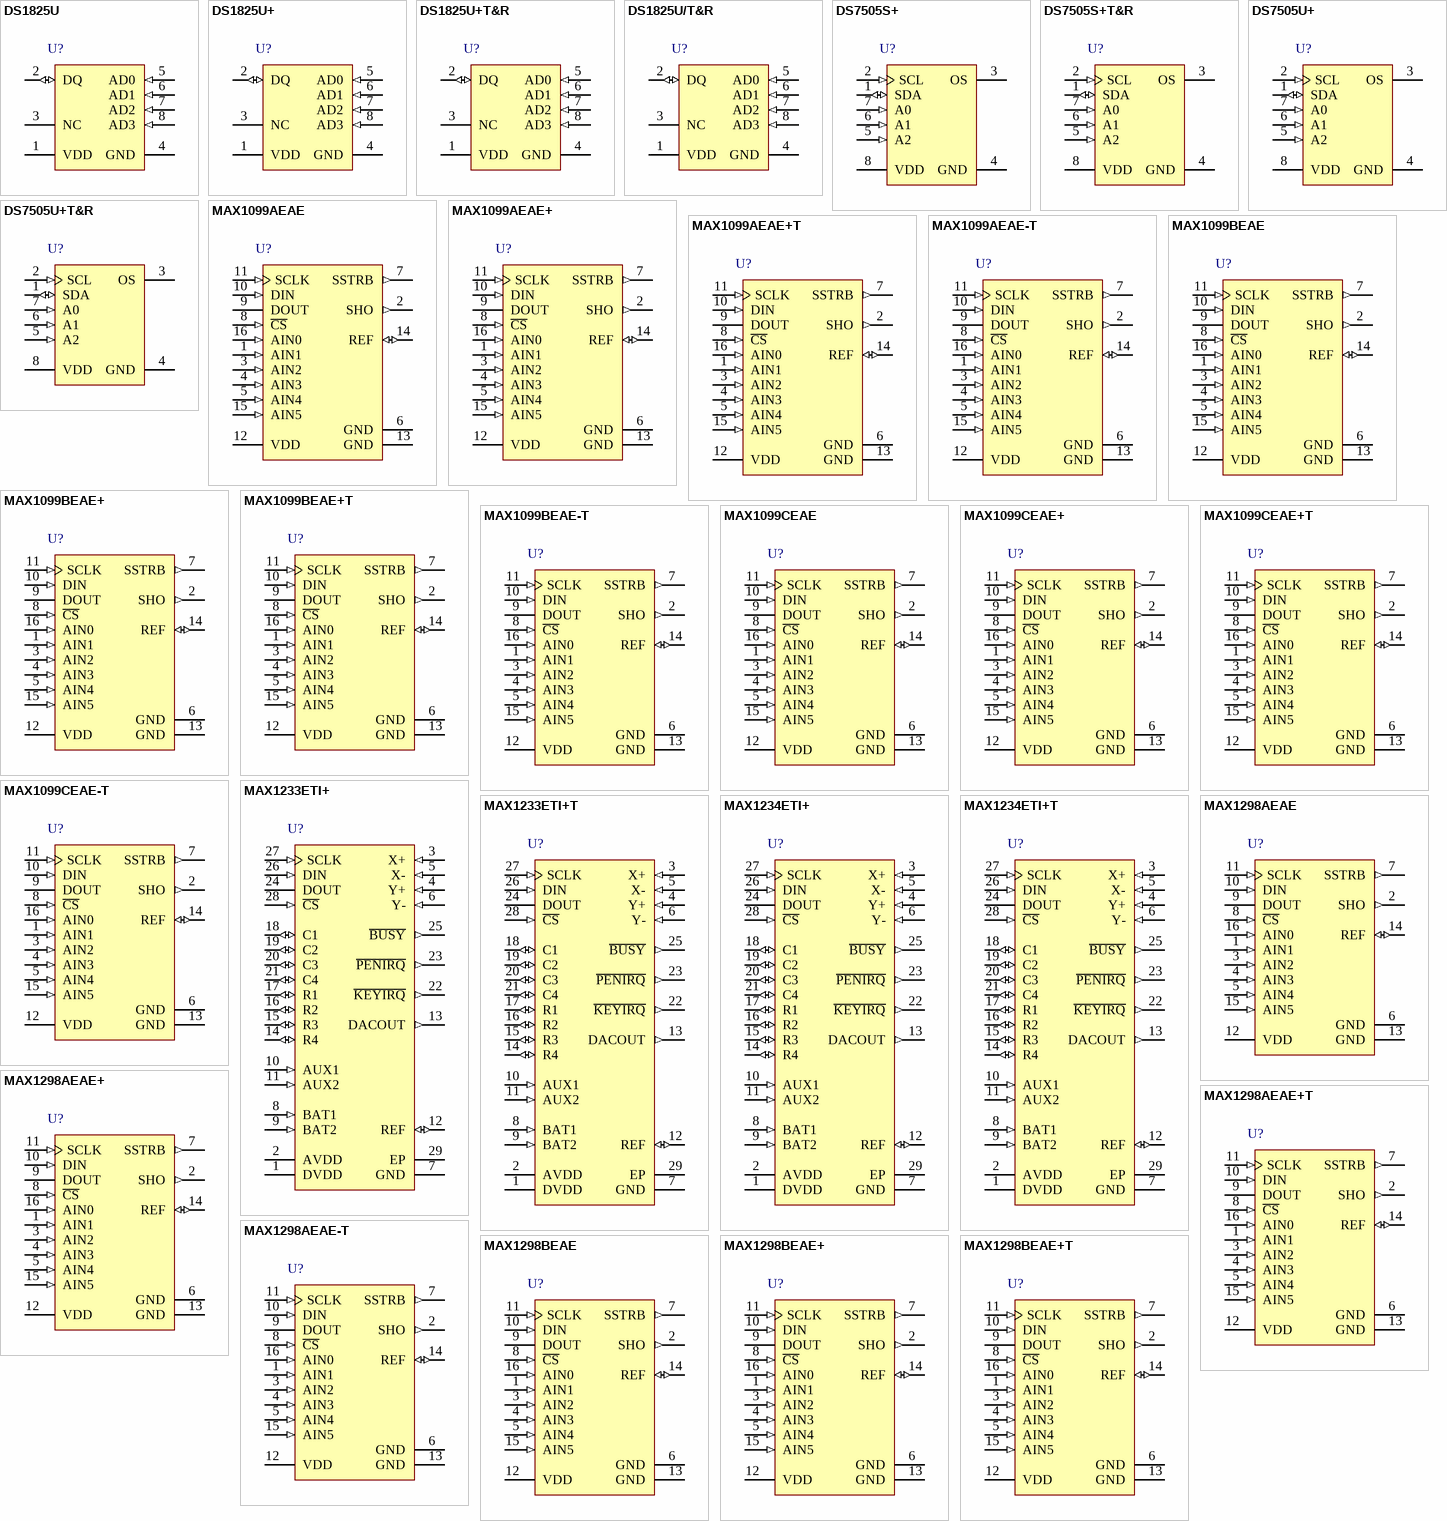
[diagram p4: symbols DS1825U to MAX1298BEAE+T]

## DS1825U
designator U?
Programmable 1-Wire Digital Thermometer with 4-bit Address, -55 to 125 degC, 8-Pin SOP (U8-1); Generic Part Number: DS1825; PartNumber: DS1825U; Parasite Pwr.: Yes; Sensor Type: Local; Temp. Thresh.: Programmable (NV); DatasheetVersion: Rev. 0; PackageVersion: Rev. L, 08/2009; PackageReference: U8-1; PackageDescription: 8-Pin Micro-MAX, Thin Shrink Small-Outline (U8-1), Body 3 x 3 mm, Pitch 0.65mm; Supplier 1: Mouser; Supplier Part Number 1: N/A; Interface: 1-Wire; Mounting Technology: Surface Mount; Code_JEDEC: MO-187; ComponentLink1Description: Manufacturer URL; ComponentLink1URL: http://www.maximintegrated.com/; ComponentLink2Description: Datasheet; ComponentLink2URL: http://datasheets.maximintegrated.com/en/ds/DS1825.pdf; ComponentLink3Description: Package Specification; ComponentLink3URL: http://pdfserv.maximintegrated.com/package_dwgs/21-0036.PDF
footprint MAXM-U8-1_N (SOP, 8-Leads, Body 3x3mm, Pitch 0.65mm, IPC Medium Density)
footprint MAXM-U8-1_L (SOP, 8-Leads, Body 3x3mm, Pitch 0.65mm, IPC High Density)
footprint MAXM-U8-1_M (SOP, 8-Leads, Body 3x3mm, Pitch 0.65mm, IPC Low Density)
pins: 1 VDD (power) "Optional VDD pin. VDD must be grounded for operation in parasite power mode.", 2 DQ (io) "Data Input/Output pin. Open-drain 1-Wire interface pin. Also provides power to the device when used in parasite power mode (see Parasite Power section.)", 3 NC "No Connection", 4 GND (power) "Ground.", 5 AD0 (in) "Location Address Input Pin LSB", 6 AD1 (in) "Location Address Input Pin", 7 AD2 (in) "Location Address Input Pin", 8 AD3 (in) "Location Address Input Pin MSB"